# Altium footprint library [OSHW_01]_RES-DEC-PCB-v2.PcbLib: 10 footprints
Each footprint in its own frame and in the unit in brackets; x right, y up, seen from the top. Pads: shape width x height; smd on the part's side, far side on the other; paste and mask are expansions set on the pad; w line width, h text height; cw(c..) or ccw(c..) is an arc to the next point about the centre after c.
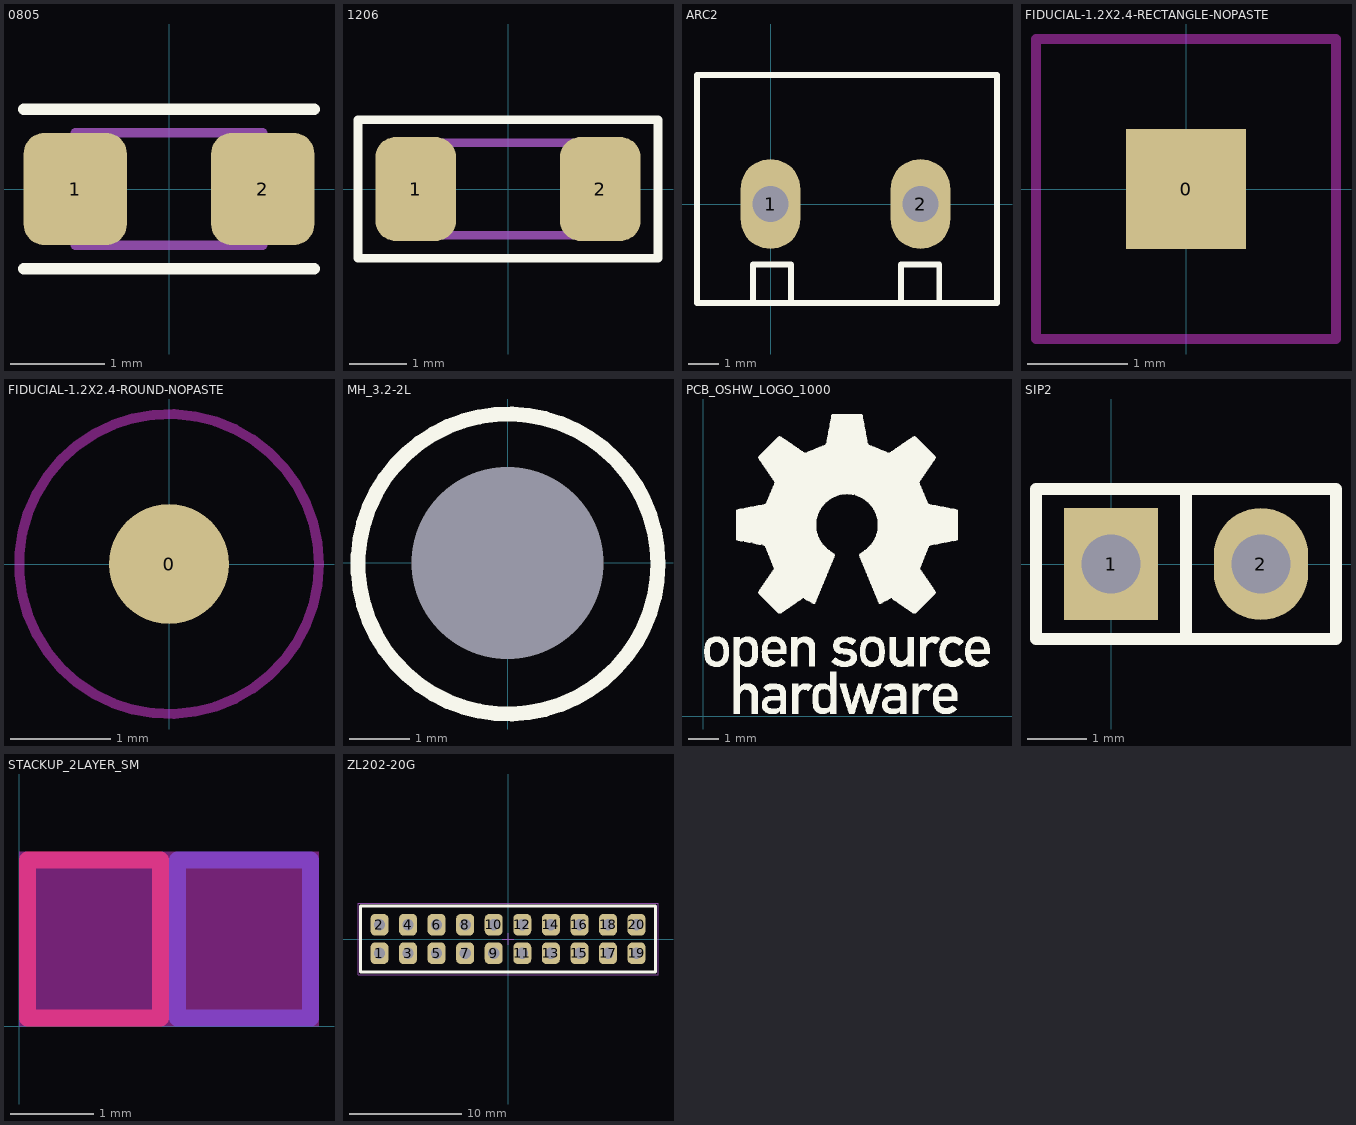
[diagram p0: the footprints below, top view; thin cyan lines are the x and y axes]

## 0805 [mm]
pads (2):
  rrect40% 1.1x1.2 smd: 1(-1,0) 2(1,0)
Top Overlay:
  lines w0.12: -1.55,-0.85 1.55,-0.85 ; -1.55,0.85 1.55,0.85
M01 BoardOutline:
  lines w0.1: -1,-0.6 -1,0.6 1,0.6 1,-0.6 -1,-0.6
3D body "RESC2012X40.step": height 0.4, standoff 0, extent -1,-0.6 1,0.6

## 1206 [mm]
pads (2):
  rrect50% 1.4x1.8 smd: 1(-1.6,0) 2(1.6,0)
Top Overlay:
  lines w0.15: -2.6,-1.2 -2.6,1.2 2.6,1.2 2.6,-1.2 -2.6,-1.2
M01 BoardOutline:
  lines w0.15: -1.6,-0.8 1.6,-0.8 1.6,0.8 -1.6,0.8 -1.6,-0.8
3D body "User Library-1206 SMD Resistor.step": height 1, standoff 0, extent -1.6,-0.8 1.6,0.8

## ARC2 [mm]
pads (2):
  oval 2x3 hole 1.2: 1(0,0) 2(5,0)
Top Overlay:
  lines w0.2: -0.585,-3.28 -0.585,-2.01 0.685,-2.01 0.685,-3.28 ; 4.355,-3.28 4.355,-2.01 5.625,-2.01 5.625,-3.28 ; -2.45,-3.3 7.55,-3.3 7.55,4.3 -2.45,4.3 -2.45,-3.3
3D body "691102710002.stp": height 9.95, standoff -3.45, extent -3.1,-3.25 8.1,4.25

## FIDUCIAL-1.2X2.4-RECTANGLE-NOPASTE [mm]
pads (1):
  rect 1.2x1.2 smd paste-10 mask+0: 0(0,0)
Top Layer keep-out:
  lines w0.1: -1.5,-1.5 -1.5,1.5 1.5,1.5 1.5,-1.5 -1.5,-1.5
Top Solder:
  rectangle: -1.5,-1.5 1.5,1.5

## FIDUCIAL-1.2X2.4-ROUND-NOPASTE [mm]
pads (1):
  round 1.2 smd paste-10 mask+0: 0(0,0)
Top Layer keep-out:
  circle w0.1: c0,0 r1.5
Top Solder:
  circle w2.5: c0,0 r0.3

## MH_3.2-2L [mm]
pads (1):
  round 0 hole 3.2 unplated: 0(0,0)
Top Overlay:
  circle w0.25: c0.007,-0.019 r2.5
Bottom Overlay:
  circle w0.25: c0.007,-0.019 r2.5

## PCB_OSHW_LOGO_1000 [mm]
height 15.3
Top Overlay:
  drawing of 18 lines, arcs and shapes, not listed

## SIP2 [mm]
pads (2):
  rect 1.6x1.9 hole 1: 1(0,0)
  oval 1.6x1.9 hole 1: 2(2.54,0)
Top Overlay:
  lines w0.2: 1.27,-1.27 1.27,1.27 ; -1.27,-1.27 -1.27,1.27 3.81,1.27 3.81,-1.27 -1.27,-1.27
3D body "61300211121.stp": height 8.57, standoff -2.97, extent -1.27,-1.27 3.81,1.27

## STACKUP_2LAYER_SM [mm]
Top Layer:
  lines w0.203: 0.1,0.1 1.7,0.1 1.7,2 0.1,2 0.1,0.1
  text "1" at 0.735,0.54 h1
Bottom Layer:
  lines w0.203: 1.9,0.1 3.5,0.1 3.5,2 1.9,2 1.9,0.1
  text "2" at 2.4,0.5 h1
Top Solder:
  rectangle: 1.8,0 3.6,2.1
Bottom Solder:
  rectangle: 0,0 1.8,2.1
Keep-Out Layer:
  region: 0,2.1 0,0 3.6,0 3.6,2.1

## ZL202-20G [mm]
pads (20):
  rrect50% 1.6x1.9 hole 1: 1(-11.43,-1.27) 2(-11.43,1.27) 3(-8.89,-1.27) 4(-8.89,1.27) 5(-6.35,-1.27) 6(-6.35,1.27) 7(-3.81,-1.27) 8(-3.81,1.27) 9(-1.27,-1.27) 10(-1.27,1.27) 11(1.27,-1.27) 12(1.27,1.27) 13(3.81,-1.27) 14(3.81,1.27) 15(6.35,-1.27) 16(6.35,1.27) 17(8.89,-1.27) 18(8.89,1.27) 19(11.43,-1.27) 20(11.43,1.27)
Top Overlay:
  lines w0.25: -13.1,-2.94 13.1,-2.94 13.1,2.93 -13.1,2.93 -13.1,-2.94
M21 AssemblyTHTTop:
  lines w0.1: -13.1,-2.94 13.1,-2.94 13.1,2.93 -13.1,2.93 -13.1,-2.94
  text ".Designator" at -12.8,-1.6 h2
M23 CourtyardTop:
  lines w0.1: -0.5,0 0,0 ; 0,-0.5 0,0 ; 0,0.5 0,0 ; 0.5,0 0,0 ; -13.335,-3.175 -13.335,3.175 13.335,3.175 13.335,-3.175 -13.335,-3.175
3D body "609002115121.stp": height 16.34, standoff 2.61, extent -12.605,-2.5 -10.255,2.5
3D body "61302021121.stp": height 8.59, standoff -2.95, extent -12.7,-2.54 12.7,2.54